# Altium integrated library Integrated_Library_rotary.IntLib: 1 symbol
Pins are listed as number, name and electrical type; pins without a type are passive.

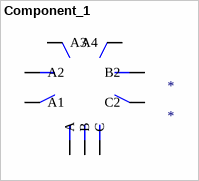
[diagram p0: symbol Component_1]

## Component_1
designator *
footprint ROTARY_SWITCH
pins: A, A1, A2, A3, A4, B, B2, C, C2